# Altium schematic symbol library LukaLIBRARY.SchLib: 83 symbols
Pins are listed as number, name and electrical type; pins without a type are passive.

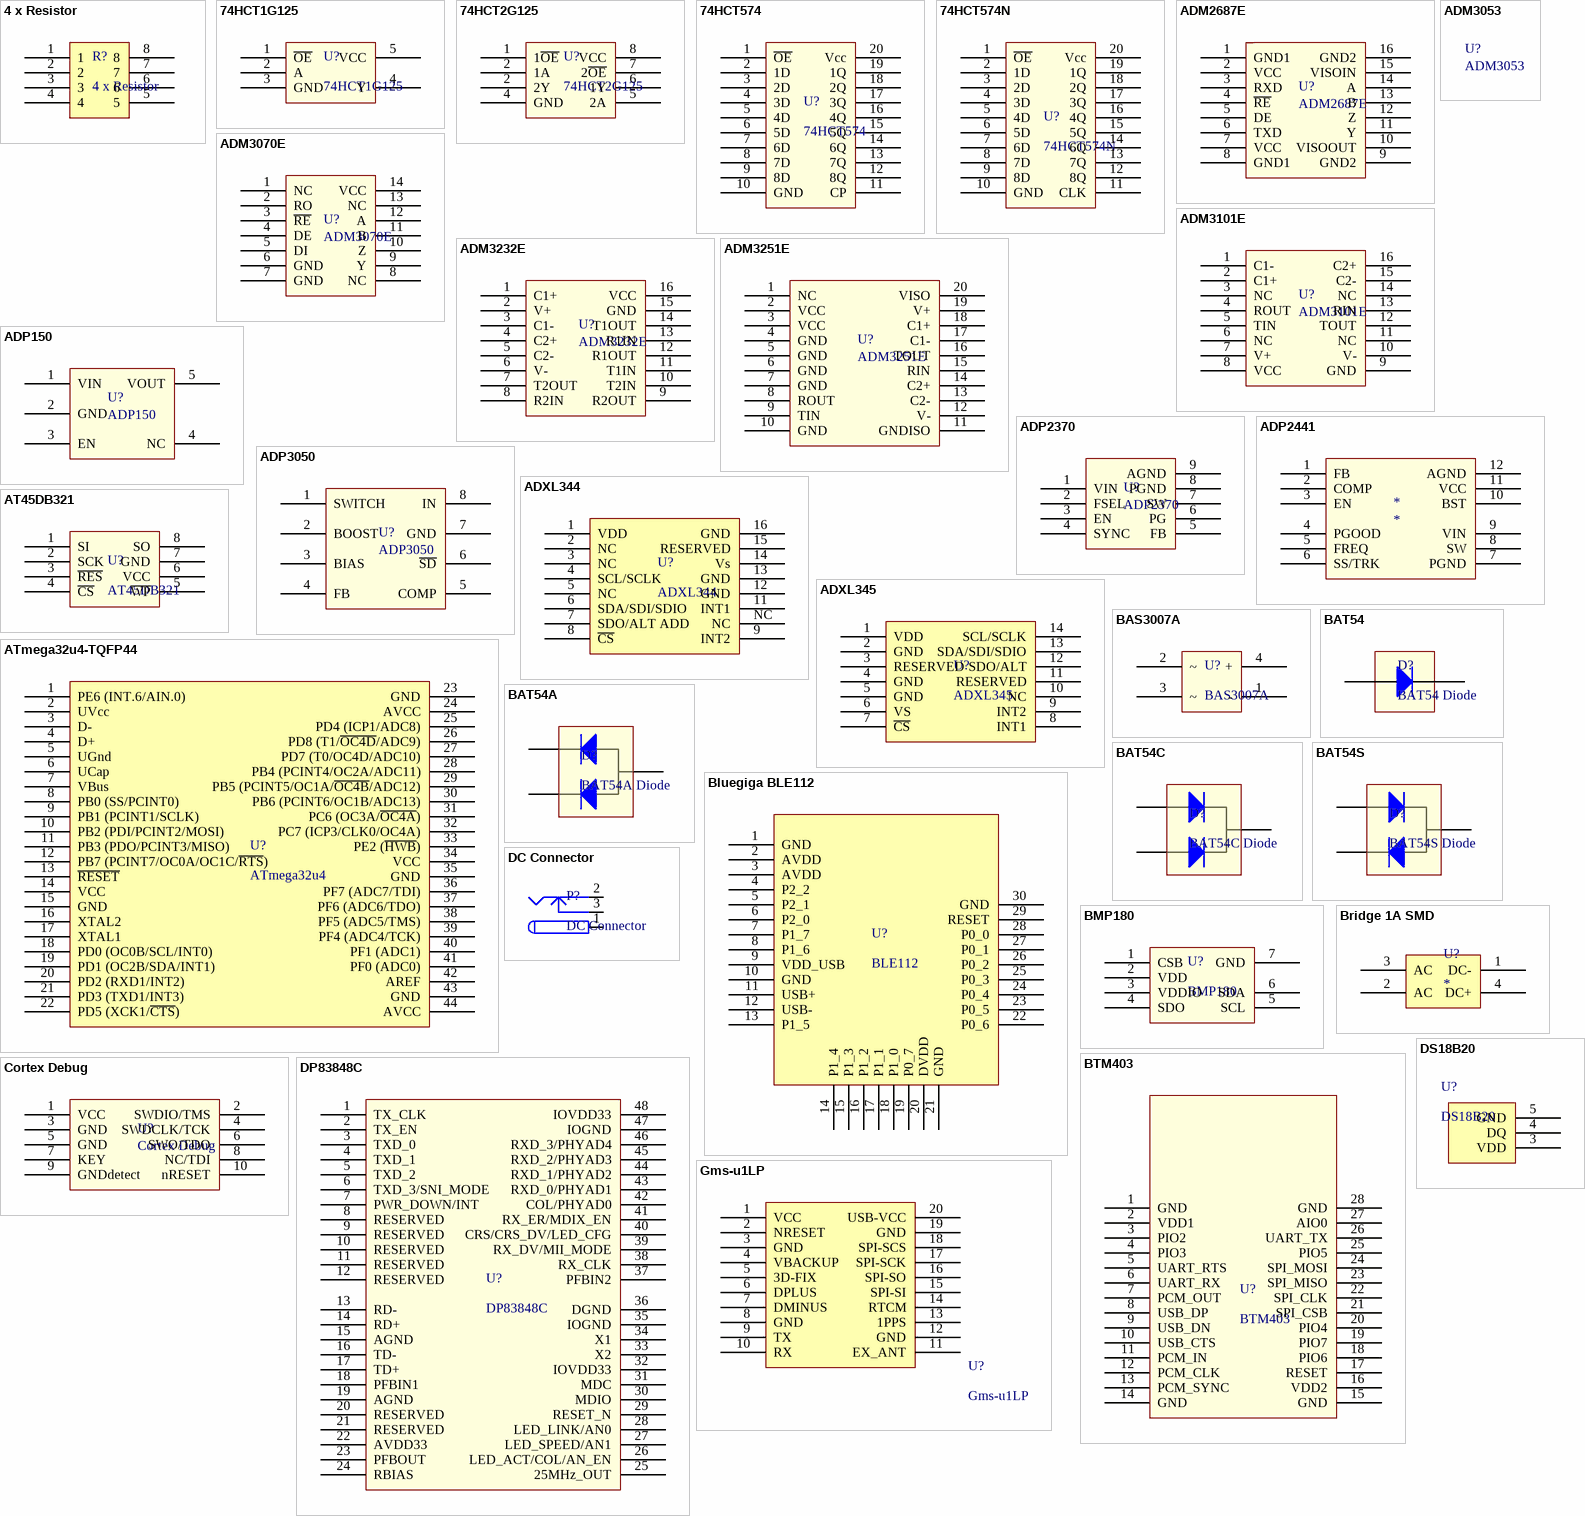
[diagram p0: symbols 4 x Resistor to Gms-u1LP]

## 4 x Resistor
designator R?
Resistor
pins: 1, 2, 3, 4, 5, 6, 7, 8

## 74HCT1G125
designator U?
Bus buffer/line driver
footprint SOT23-5
pins: 1 ~{OE}, 2 A, 3 GND, 4 Y, 5 VCC

## 74HCT2G125
designator U?
Dual buffer/line driver
footprint TSSOP-8
pins: 1 1~{OE}, 2 1A, 2 2Y, 4 GND, 5 2A, 6 1Y, 7 2~{OE}, 8 VCC

## 74HCT574
designator U?
D Flip Flops
pins: 1 ~{OE}, 2 1D, 3 2D, 4 3D, 5 4D, 6 5D, 7 6D, 8 7D, 9 8D, 10 GND, 11 CP, 12 8Q, 13 7Q, 14 6Q, 15 5Q, 16 4Q, 17 3Q, 18 2Q, 19 1Q, 20 Vcc

## 74HCT574N
designator U?
D Flip Flops
pins: 1 ~{OE}, 2 1D, 3 2D, 4 3D, 5 4D, 6 5D, 7 6D, 8 7D, 9 8D, 10 GND, 11 CLK, 12 8Q, 13 7Q, 14 6Q, 15 5Q, 16 4Q, 17 3Q, 18 2Q, 19 1Q, 20 Vcc

## ADM2687E
designator U?
RS-485 Transceiver with ±15 kV ESD Protection
pins: 1 GND1, 2 VCC, 3 RXD, 4 ~{RE}, 5 DE, 6 TXD, 7 VCC, 8 GND1, 9 GND2, 10 VISOOUT, 11 Y, 12 Z, 13 B, 14 A, 15 VISOIN, 16 GND2

## ADM3053
designator U?
Signal and Power Isolated CAN Transceiver  with Integrated Isolated DC-to-DC Converter

## ADM3070E
designator U?
±15KV ESD PROTECTED, RS-485/RS-422 TRANSCEIVER (FULL DUPLEX, 250 KBPS)
pins: 1 NC, 2 RO, 3 ~{RE}, 4 DE, 5 DI, 6 GND, 7 GND, 8 NC, 9 Y, 10 Z, 11 B, 12 A, 13 NC, 14 VCC

## ADM3101E
designator U?
±15 kV ESD Protected, 3.3 V Single-Channel  RS-232 Line Driver/Receiver
pins: 1 C1-, 2 C1+, 3 NC, 4 ROUT, 5 TIN, 6 NC, 7 V+, 8 VCC, 9 GND, 10 V-, 11 NC, 12 TOUT, 13 RIN, 14 NC, 15 C2-, 16 C2+

## ADM3232E
designator U?
±15 kV ESD Protected, 3.3 V, RS-232  Line Driver/Receiver
pins: 1 C1+, 2 V+, 3 C1-, 4 C2+, 5 C2-, 6 V-, 7 T2OUT, 8 R2IN, 9 R2OUT, 10 T2IN, 11 T1IN, 12 R1OUT, 13 R1IN, 14 T1OUT, 15 GND, 16 VCC

## ADM3251E
designator U?
Isolated, Single-Channel  RS-232 Line Driver/Receiver
pins: 1 NC, 2 VCC, 3 VCC, 4 GND, 5 GND, 6 GND, 7 GND, 8 ROUT, 9 TIN, 10 GND, 11 GNDISO, 12 V-, 13 C2-, 14 C2+, 15 RIN, 16 TOUT, 17 C1-, 18 C1+, 19 V+, 20 VISO

## ADP150
designator U?
150ma CMOS Linear Voltage Regulator
pins: 1 VIN, 2 GND, 3 EN, 4 NC, 5 VOUT

## ADP2370
designator U?
High Voltage, 1.2 MHz/600 kHz, 800 mA,  Low Quiescent Current Buck Regulator
pins: 1 VIN, 2 FSEL, 3 EN, 4 SYNC, 5 FB, 6 PG, 7 SW, 8 PGND, 9 AGND

## ADP2441
designator *
pins: 1 FB, 2 COMP, 3 EN, 4 PGOOD, 5 FREQ, 6 SS/TRK, 7 PGND, 8 SW, 9 VIN, 10 BST, 11 VCC, 12 AGND

## ADP3050
designator U?
200kHz, 1A High Voltage  Step-Down Switching Regulator
pins: 1 SWITCH, 2 BOOST, 3 BIAS, 4 FB, 5 COMP, 6 ~{SD}, 7 GND, 8 IN

## ADXL344
designator U?
Accelerometer
pins: 1 VDD, 2 NC, 3 NC, 4 SCL/SCLK, 5 NC, 6 SDA/SDI/SDIO, 7 SDO/ALT ADD, 8 ~{CS}, 9 INT2, 11 INT1, 12 GND, 13 GND, 14 Vs, 15 RESERVED, 16 GND, NC

## ADXL345
designator U?
Accelerometer
footprint ADXL345 (Accelerometer)
pins: 1 VDD, 2 GND, 3 RESERVED, 4 GND, 5 GND, 6 VS, 7 ~{CS}, 8 INT1, 9 INT2, 10 NC, 11 RESERVED, 12 SDO/ALT, 13 SDA/SDI/SDIO, 14 SCL/SCLK

## AT45DB321
designator U?
SPI Flash 32MB
footprint AT45DB321E (Footprint not found)
pins: 1 SI, 2 SCK, 3 ~{RES}, 4 ~{CS}, 5 ~{WP}, 6 VCC, 7 GND, 8 SO

## ATmega32u4-TQFP44
designator U?, comment ATmega32u4
Microcontroller AVR ATmega32u4
footprint 44A_L (Thin QFP, 44-Leads, Body 10x10mm, Pitch 0.8mm, IPC High Density)
signal-integrity model 44A_L (Model Description)
pins: 1 PE6 (INT.6/AIN.0), 2 UVcc, 3 D-, 4 D+, 5 UGnd, 6 UCap, 7 VBus, 8 PB0 (SS/PCINT0), 9 PB1 (PCINT1/SCLK), 10 PB2 (PDI/PCINT2/MOSI), 11 PB3 (PDO/PCINT3/MISO), 12 PB7 (PCINT7/OC0A/OC1C/~{RTS}), 13 ~{RESET}, 14 VCC, 15 GND, 16 XTAL2, 17 XTAL1, 18 PD0 (OC0B/SCL/INT0), 19 PD1 (OC2B/SDA/INT1), 20 PD2 (RXD1/INT2), 21 PD3 (TXD1/INT3), 22 PD5 (XCK1/~{CTS}), 23 GND, 24 AVCC, 25 PD4 (ICP1/ADC8), 26 PD8 (T1/~{OC4D}/ADC9), 27 PD7 (T0/OC4D/ADC10), 28 PB4 (PCINT4/OC2A/ADC11), 29 PB5 (PCINT5/OC1A/~{OC4B}/ADC12), 30 PB6 (PCINT6/OC1B/ADC13), 31 PC6 (OC3A/~{OC4A}), 32 PC7 (ICP3/CLK0/OC4A), 33 PE2 (~{HWB}), 34 VCC, 35 GND, 36 PF7 (ADC7/TDI), 37 PF6 (ADC6/TDO), 38 PF5 (ADC5/TMS), 39 PF4 (ADC4/TCK), 40 PF1 (ADC1), 41 PF0 (ADC0), 42 AREF, 43 GND, 44 AVCC

## BAS3007A
designator U?
Schottky Diode Array
pins: 1 -, 2 ~, 3 ~, 4 +

## BAT54
designator D?, comment BAT54 Diode
Schottky Diode
pins: 1, 3

## BAT54A
designator D?, comment BAT54A Diode
Schottky Diode
pins: 1, 2, 3

## BAT54C
designator D?, comment BAT54C Diode
Schottky Diode
pins: 1, 2, 3

## BAT54S
designator D?, comment BAT54S Diode
Schottky Diode
pins: 1, 2, 3

## Bluegiga BLE112
designator U?, comment BLE112
Bluetooth Module
signal-integrity model Model Name (Model Description)
footprint Bluegiga BLE112
pins: 1 GND, 2 AVDD, 3 AVDD, 4 P2_2, 5 P2_1, 6 P2_0, 7 P1_7, 8 P1_6, 9 VDD_USB, 10 GND, 11 USB+, 12 USB-, 13 P1_5, 14 P1_4, 15 P1_3, 16 P1_2, 17 P1_1, 18 P1_0, 19 P0_7, 20 DVDD, 21 GND, 22 P0_6, 23 P0_5, 24 P0_4, 25 P0_3, 26 P0_2, 27 P0_1, 28 P0_0, 29 RESET, 30 GND

## BMP180
designator U?
Digital pressure sensor
pins: 1 CSB, 2 VDD, 3 VDDIO, 4 SDO, 5 SCL, 6 SDA, 7 GND

## Bridge 1A SMD
designator U?
footprint Bridge SMD 1A
pins: 1 DC-, 2 AC, 3 AC, 4 DC+

## BTM403
designator U?
Bluetooth Module
pins: 1 GND, 2 VDD1, 3 PIO2, 4 PIO3, 5 UART_RTS, 6 UART_RX, 7 PCM_OUT, 8 USB_DP, 9 USB_DN, 10 USB_CTS, 11 PCM_IN, 12 PCM_CLK, 13 PCM_SYNC, 14 GND, 15 GND, 16 VDD2, 17 RESET, 18 PIO6, 19 PIO7, 20 PIO4, 21 SPI_CSB, 22 SPI_CLK, 23 SPI_MISO, 24 SPI_MOSI, 25 PIO5, 26 UART_TX, 27 AIO0, 28 GND

## Cortex Debug
designator U?
pins: 1 VCC, 2 SWDIO/TMS, 3 GND, 4 SWDCLK/TCK, 5 GND, 6 SWO/TDO, 7 KEY, 8 NC/TDI, 9 GNDdetect, 10 nRESET

## DC Connector
designator P?
DC Power Connector
footprint DC Connector
pins: 1 (power), 2 (power), 3 (power)

## DP83848C
designator U?
Ethernet PHY
footprint DP83848C (Ethernet PHY LQFP48)
pins: 1 TX_CLK, 2 TX_EN, 3 TXD_0, 4 TXD_1, 5 TXD_2, 6 TXD_3/SNI_MODE, 7 PWR_DOWN/INT, 8 RESERVED, 9 RESERVED, 10 RESERVED, 11 RESERVED, 12 RESERVED, 13 RD-, 14 RD+, 15 AGND, 16 TD-, 17 TD+, 18 PFBIN1, 19 AGND, 20 RESERVED, 21 RESERVED, 22 AVDD33, 23 PFBOUT, 24 RBIAS, 25 25MHz_OUT, 26 LED_ACT/COL/AN_EN, 27 LED_SPEED/AN1, 28 LED_LINK/AN0, 29 RESET_N, 30 MDIO, 31 MDC, 32 IOVDD33, 33 X2, 34 X1, 35 IOGND, 36 DGND, 37 PFBIN2, 38 RX_CLK, 39 RX_DV/MII_MODE, 40 CRS/CRS_DV/LED_CFG, 41 RX_ER/MDIX_EN, 42 COL/PHYAD0, 43 RXD_0/PHYAD1, 44 RXD_1/PHYAD2, 45 RXD_2/PHYAD3, 46 RXD_3/PHYAD4, 47 IOGND, 48 IOVDD33

## DS18B20
designator U?
1-Wire Thermometer
footprint BATTERY CHARGER 8SOIC
pins: 3 VDD, 4 DQ, 5 GND

## Gms-u1LP
designator U?
GPS Module
footprint Gms-u1LP GPS Module - duplicate
signal-integrity model Model Name (Model Description)
3D model gps (PCB3D Model)
pins: 1 VCC, 2 NRESET, 3 GND, 4 VBACKUP, 5 3D-FIX, 6 DPLUS, 7 DMINUS, 8 GND, 9 TX, 10 RX, 11 EX_ANT, 12 GND, 13 1PPS, 14 RTCM, 15 SPI-SI, 16 SPI-SO, 17 SPI-SCK, 18 SPI-SCS, 19 GND, 20 USB-VCC

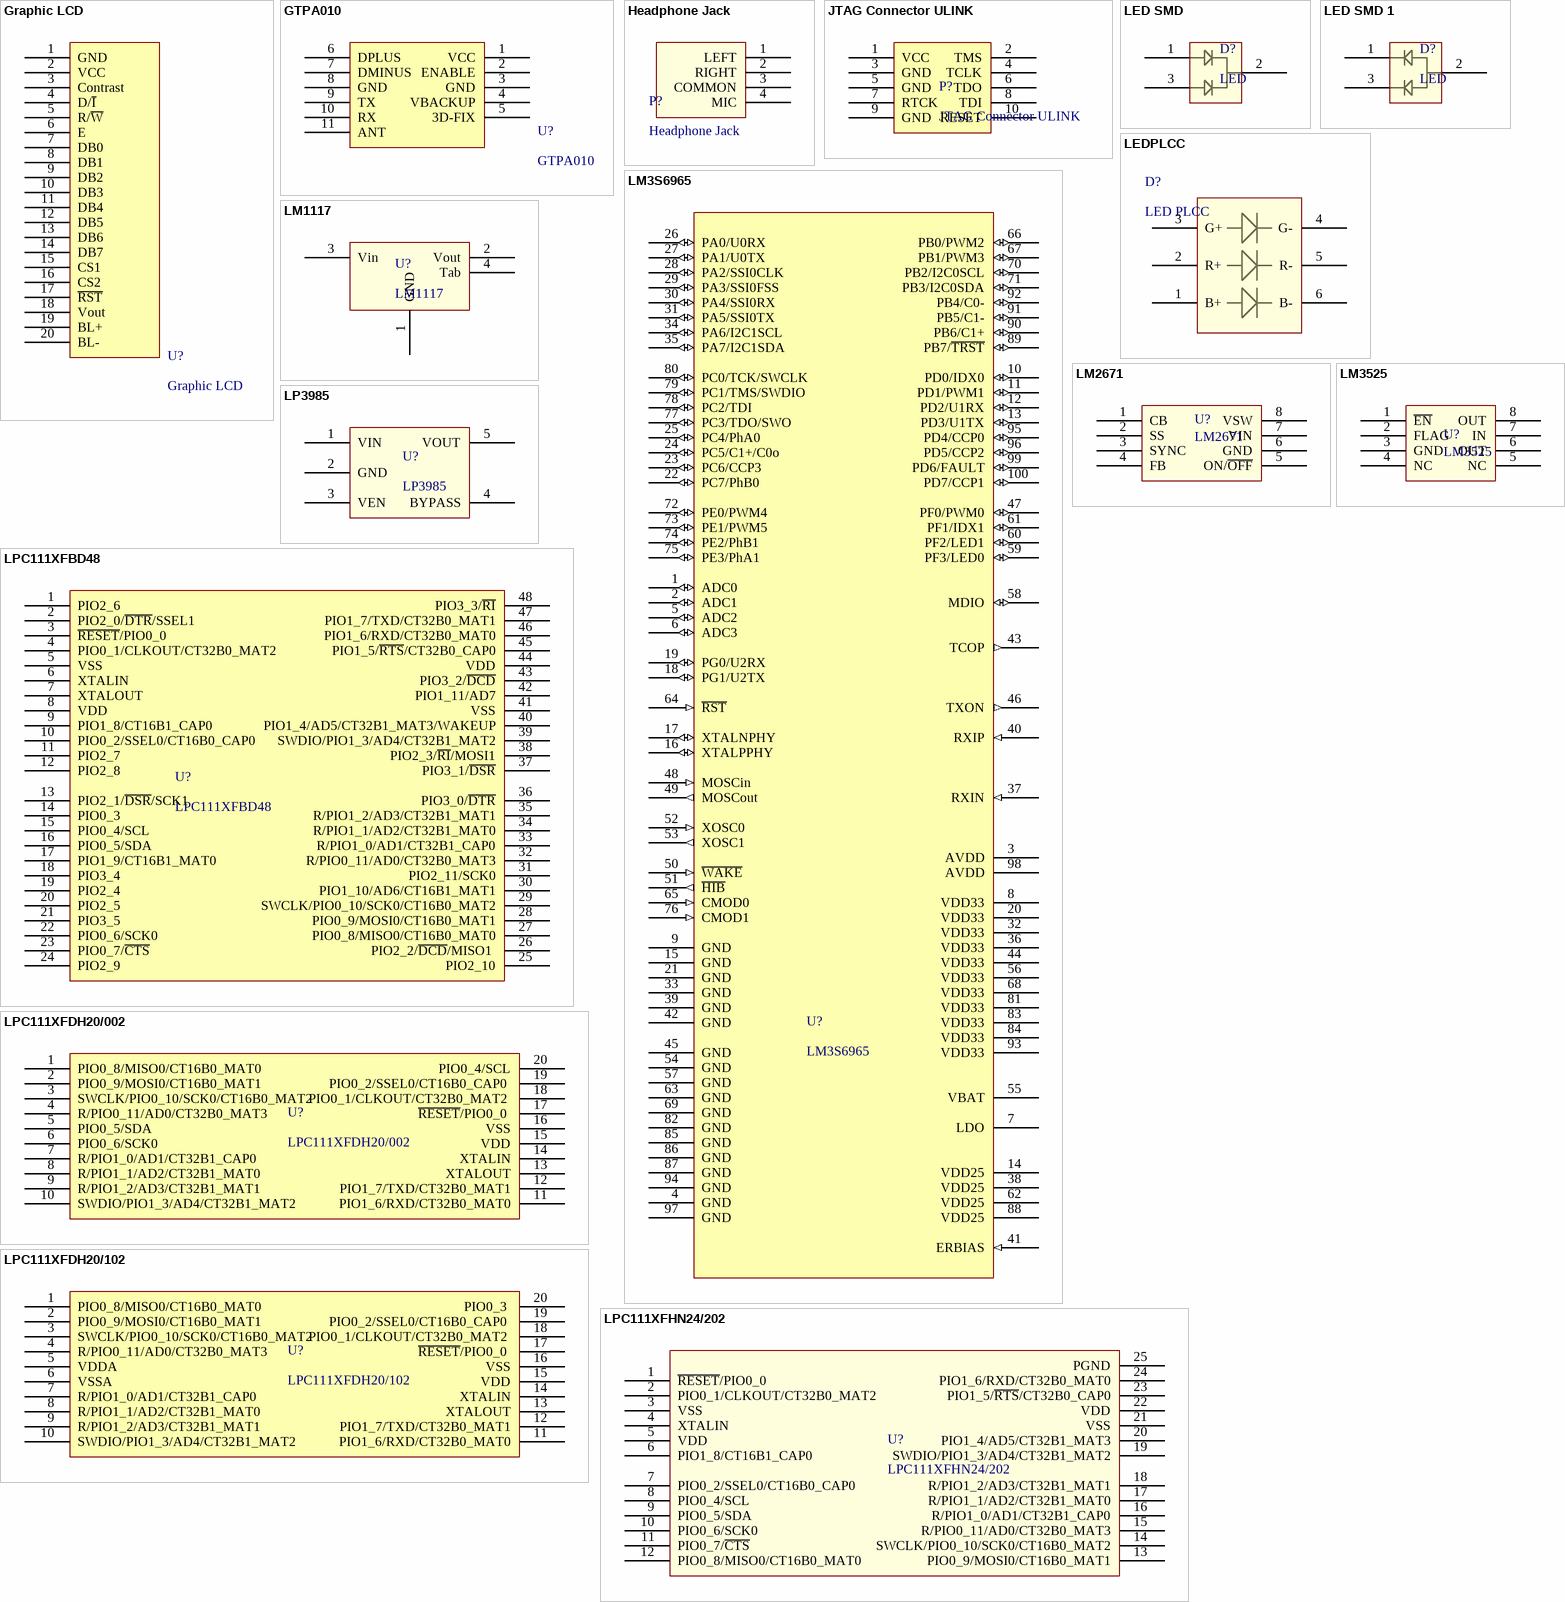
[diagram p1: symbols Graphic LCD to LPC111XFHN24/202]

## Graphic LCD
designator U?
signal-integrity model Graphic LCD
footprint Graphic LCD 128x64
3D model GRAPHIC_LCD_128x64 (PCB3D Model)
pins: 1 GND, 2 VCC, 3 Contrast, 4 D/~{I}, 5 R/~{W}, 6 E, 7 DB0, 8 DB1, 9 DB2, 10 DB3, 11 DB4, 12 DB5, 13 DB6, 14 DB7, 15 CS1, 16 CS2, 17 ~{RST}, 18 Vout, 19 BL+, 20 BL-

## GTPA010
designator U?
GPS Module
footprint GPS-GTPA010
signal-integrity model GPS-GTPA010 (Model Description)
pins: 1 VCC, 2 ENABLE, 3 GND, 4 VBACKUP, 5 3D-FIX, 6 DPLUS, 7 DMINUS, 8 GND, 9 TX, 10 RX, 11 ANT

## Headphone Jack
designator P?
pins: 1 LEFT, 2 RIGHT, 3 COMMON, 4 MIC

## JTAG Connector ULINK
designator P?
footprint JTAG Connector ULINK
signal-integrity model Model Name (Model Description)
pins: 1 VCC, 2 TMS, 3 GND, 4 TCLK, 5 GND, 6 TDO, 7 RTCK, 8 TDI, 9 GND, 10 RESET

## LED SMD
designator D?, comment LED
footprint SMD LED
pins: 1, 2, 3

## LED SMD 1
designator D?, comment LED
footprint SMD LED
pins: 1, 2, 3

## LEDPLCC
designator D?, comment LED PLCC
LED
footprint LED PLCC 6 5050
pins: 1 B+, 2 R+, 3 G+, 4 G-, 5 R-, 6 B-

## LM3S6965
designator U?
ARM Cortex M3 Microcontroller
pins: 1 ADC0 (io), 2 ADC1 (io), 3 AVDD, 4 GND, 5 ADC2 (io), 6 ADC3 (io), 7 LDO, 8 VDD33, 9 GND, 10 PD0/IDX0 (io), 11 PD1/PWM1 (io), 12 PD2/U1RX (io), 13 PD3/U1TX (io), 14 VDD25, 15 GND, 16 XTALPPHY (io), 17 XTALNPHY (io), 18 PG1/U2TX (io), 19 PG0/U2RX (io), 20 VDD33, 21 GND, 22 PC7/PhB0 (io), 23 PC6/CCP3 (io), 24 PC5/C1+/C0o (io), 25 PC4/PhA0 (io), 26 PA0/U0RX (io), 27 PA1/U0TX (io), 28 PA2/SSI0CLK (io), 29 PA3/SSI0FSS (io), 30 PA4/SSI0RX (io), 31 PA5/SSI0TX (io), 32 VDD33, 33 GND, 34 PA6/I2C1SCL (io), 35 PA7/I2C1SDA (io), 36 VDD33, 37 RXIN (in), 38 VDD25, 39 GND, 40 RXIP (in), 41 ERBIAS (in), 42 GND, 43 TCOP (out), 44 VDD33, 45 GND, 46 TXON (out), 47 PF0/PWM0 (io), 48 MOSCin (in), 49 MOSCout (out), 50 ~{WAKE} (in), 51 ~{HIB} (out), 52 XOSC0 (in), 53 XOSC1 (out), 54 GND, 55 VBAT, 56 VDD33, 57 GND, 58 MDIO (io), 59 PF3/LED0 (io), 60 PF2/LED1 (io), 61 PF1/IDX1 (io), 62 VDD25, 63 GND, 64 ~{RST} (in), 65 CMOD0 (in), 66 PB0/PWM2 (io), 67 PB1/PWM3 (io), 68 VDD33, 69 GND, 70 PB2/I2C0SCL (io), 71 PB3/I2C0SDA (io), 72 PE0/PWM4 (io), 73 PE1/PWM5 (io), 74 PE2/PhB1 (io), 75 PE3/PhA1 (io), 76 CMOD1 (in), 77 PC3/TDO/SWO (io), 78 PC2/TDI (io), 79 PC1/TMS/SWDIO (io), 80 PC0/TCK/SWCLK (io), 81 VDD33, 82 GND, 83 VDD33, 84 VDD33, 85 GND, 86 GND, 87 GND, 88 VDD25, 89 PB7/~{TRST} (io), 90 PB6/C1+ (io), 91 PB5/C1- (io), 92 PB4/C0- (io), 93 VDD33, 94 GND, 95 PD4/CCP0 (io), 96 PD5/CCP2 (io), 97 GND, 98 AVDD, 99 PD6/FAULT (io), 100 PD7/CCP1 (io)

## LM1117
designator U?
Voltage Regulator
pins: 1 GND, 2 Vout, 3 Vin, 4 Tab

## LM2671
designator U?
Switcher Voltage  Regulator
pins: 1 CB, 2 SS, 3 SYNC, 4 FB, 5 ON/~{OFF}, 6 GND, 7 VIN, 8 VSW

## LM3525
designator U?
Single Port USB Power Switch and Over-Current Protection
pins: 1 ~{EN}, 2 FLAG, 3 GND, 4 NC, 5 NC, 6 OUT, 7 IN, 8 OUT

## LP3985
designator U?
150mA LDO
footprint TSOP 5
pins: 1 VIN, 2 GND, 3 VEN, 4 BYPASS, 5 VOUT

## LPC111XFBD48
designator U?
ARM Cortex M0 Microcontroller
footprint LPC1114 LQFP48
signal-integrity model LPC1114 (NXP)
pins: 1 PIO2_6, 2 PIO2_0/~{DTR}/SSEL1, 3 ~{RESET}/PIO0_0, 4 PIO0_1/CLKOUT/CT32B0_MAT2, 5 VSS, 6 XTALIN, 7 XTALOUT, 8 VDD, 9 PIO1_8/CT16B1_CAP0, 10 PIO0_2/SSEL0/CT16B0_CAP0, 11 PIO2_7, 12 PIO2_8, 13 PIO2_1/~{DSR}/SCK1, 14 PIO0_3, 15 PIO0_4/SCL, 16 PIO0_5/SDA, 17 PIO1_9/CT16B1_MAT0, 18 PIO3_4, 19 PIO2_4, 20 PIO2_5, 21 PIO3_5, 22 PIO0_6/SCK0, 23 PIO0_7/~{CTS}, 24 PIO2_9, 25 PIO2_10, 26 PIO2_2/~{DCD}/MISO1 , 27 PIO0_8/MISO0/CT16B0_MAT0, 28 PIO0_9/MOSI0/CT16B0_MAT1, 29 SWCLK/PIO0_10/SCK0/CT16B0_MAT2, 30 PIO1_10/AD6/CT16B1_MAT1, 31 PIO2_11/SCK0, 32 R/PIO0_11/AD0/CT32B0_MAT3, 33 R/PIO1_0/AD1/CT32B1_CAP0, 34 R/PIO1_1/AD2/CT32B1_MAT0, 35 R/PIO1_2/AD3/CT32B1_MAT1, 36 PIO3_0/~{DTR}, 37 PIO3_1/~{DSR}, 38 PIO2_3/~{RI}/MOSI1, 39 SWDIO/PIO1_3/AD4/CT32B1_MAT2, 40 PIO1_4/AD5/CT32B1_MAT3/WAKEUP, 41 VSS, 42 PIO1_11/AD7, 43 PIO3_2/~{DCD}, 44 VDD, 45 PIO1_5/~{RTS}/CT32B0_CAP0, 46 PIO1_6/RXD/CT32B0_MAT0, 47 PIO1_7/TXD/CT32B0_MAT1, 48 PIO3_3/~{RI}

## LPC111XFDH20/002
designator U?
ARM Cortex M0 Microcontroller
pins: 1 PIO0_8/MISO0/CT16B0_MAT0, 2 PIO0_9/MOSI0/CT16B0_MAT1, 3 SWCLK/PIO0_10/SCK0/CT16B0_MAT2, 4 R/PIO0_11/AD0/CT32B0_MAT3, 5 PIO0_5/SDA, 6 PIO0_6/SCK0, 7 R/PIO1_0/AD1/CT32B1_CAP0, 8 R/PIO1_1/AD2/CT32B1_MAT0, 9 R/PIO1_2/AD3/CT32B1_MAT1, 10 SWDIO/PIO1_3/AD4/CT32B1_MAT2, 11 PIO1_6/RXD/CT32B0_MAT0, 12 PIO1_7/TXD/CT32B0_MAT1, 13 XTALOUT, 14 XTALIN, 15 VDD, 16 VSS, 17 ~{RESET}/PIO0_0 , 18 PIO0_1/CLKOUT/CT32B0_MAT2 , 19 PIO0_2/SSEL0/CT16B0_CAP0 , 20 PIO0_4/SCL

## LPC111XFDH20/102
designator U?
ARM Cortex M0 Microcontroller
pins: 1 PIO0_8/MISO0/CT16B0_MAT0, 2 PIO0_9/MOSI0/CT16B0_MAT1, 3 SWCLK/PIO0_10/SCK0/CT16B0_MAT2, 4 R/PIO0_11/AD0/CT32B0_MAT3, 5 VDDA, 6 VSSA, 7 R/PIO1_0/AD1/CT32B1_CAP0, 8 R/PIO1_1/AD2/CT32B1_MAT0, 9 R/PIO1_2/AD3/CT32B1_MAT1, 10 SWDIO/PIO1_3/AD4/CT32B1_MAT2, 11 PIO1_6/RXD/CT32B0_MAT0, 12 PIO1_7/TXD/CT32B0_MAT1, 13 XTALOUT, 14 XTALIN, 15 VDD, 16 VSS, 17 ~{RESET}/PIO0_0 , 18 PIO0_1/CLKOUT/CT32B0_MAT2 , 19 PIO0_2/SSEL0/CT16B0_CAP0 , 20 PIO0_3 

## LPC111XFHN24/202
designator U?
ARM Cortex M0 Microcontroller
pins: 1 ~{RESET}/PIO0_0, 2 PIO0_1/CLKOUT/CT32B0_MAT2, 3 VSS, 4 XTALIN, 5 VDD, 6 PIO1_8/CT16B1_CAP0, 7 PIO0_2/SSEL0/CT16B0_CAP0, 8 PIO0_4/SCL, 9 PIO0_5/SDA, 10 PIO0_6/SCK0 , 11 PIO0_7/~{CTS}, 12 PIO0_8/MISO0/CT16B0_MAT0, 13 PIO0_9/MOSI0/CT16B0_MAT1, 14 SWCLK/PIO0_10/SCK0/CT16B0_MAT2, 15 R/PIO0_11/AD0/CT32B0_MAT3, 16 R/PIO1_0/AD1/CT32B1_CAP0, 17 R/PIO1_1/AD2/CT32B1_MAT0, 18 R/PIO1_2/AD3/CT32B1_MAT1, 19 SWDIO/PIO1_3/AD4/CT32B1_MAT2, 20 PIO1_4/AD5/CT32B1_MAT3, 21 VSS, 22 VDD, 23 PIO1_5/~{RTS}/CT32B0_CAP0, 24 PIO1_6/RXD/CT32B0_MAT0, 25 PGND

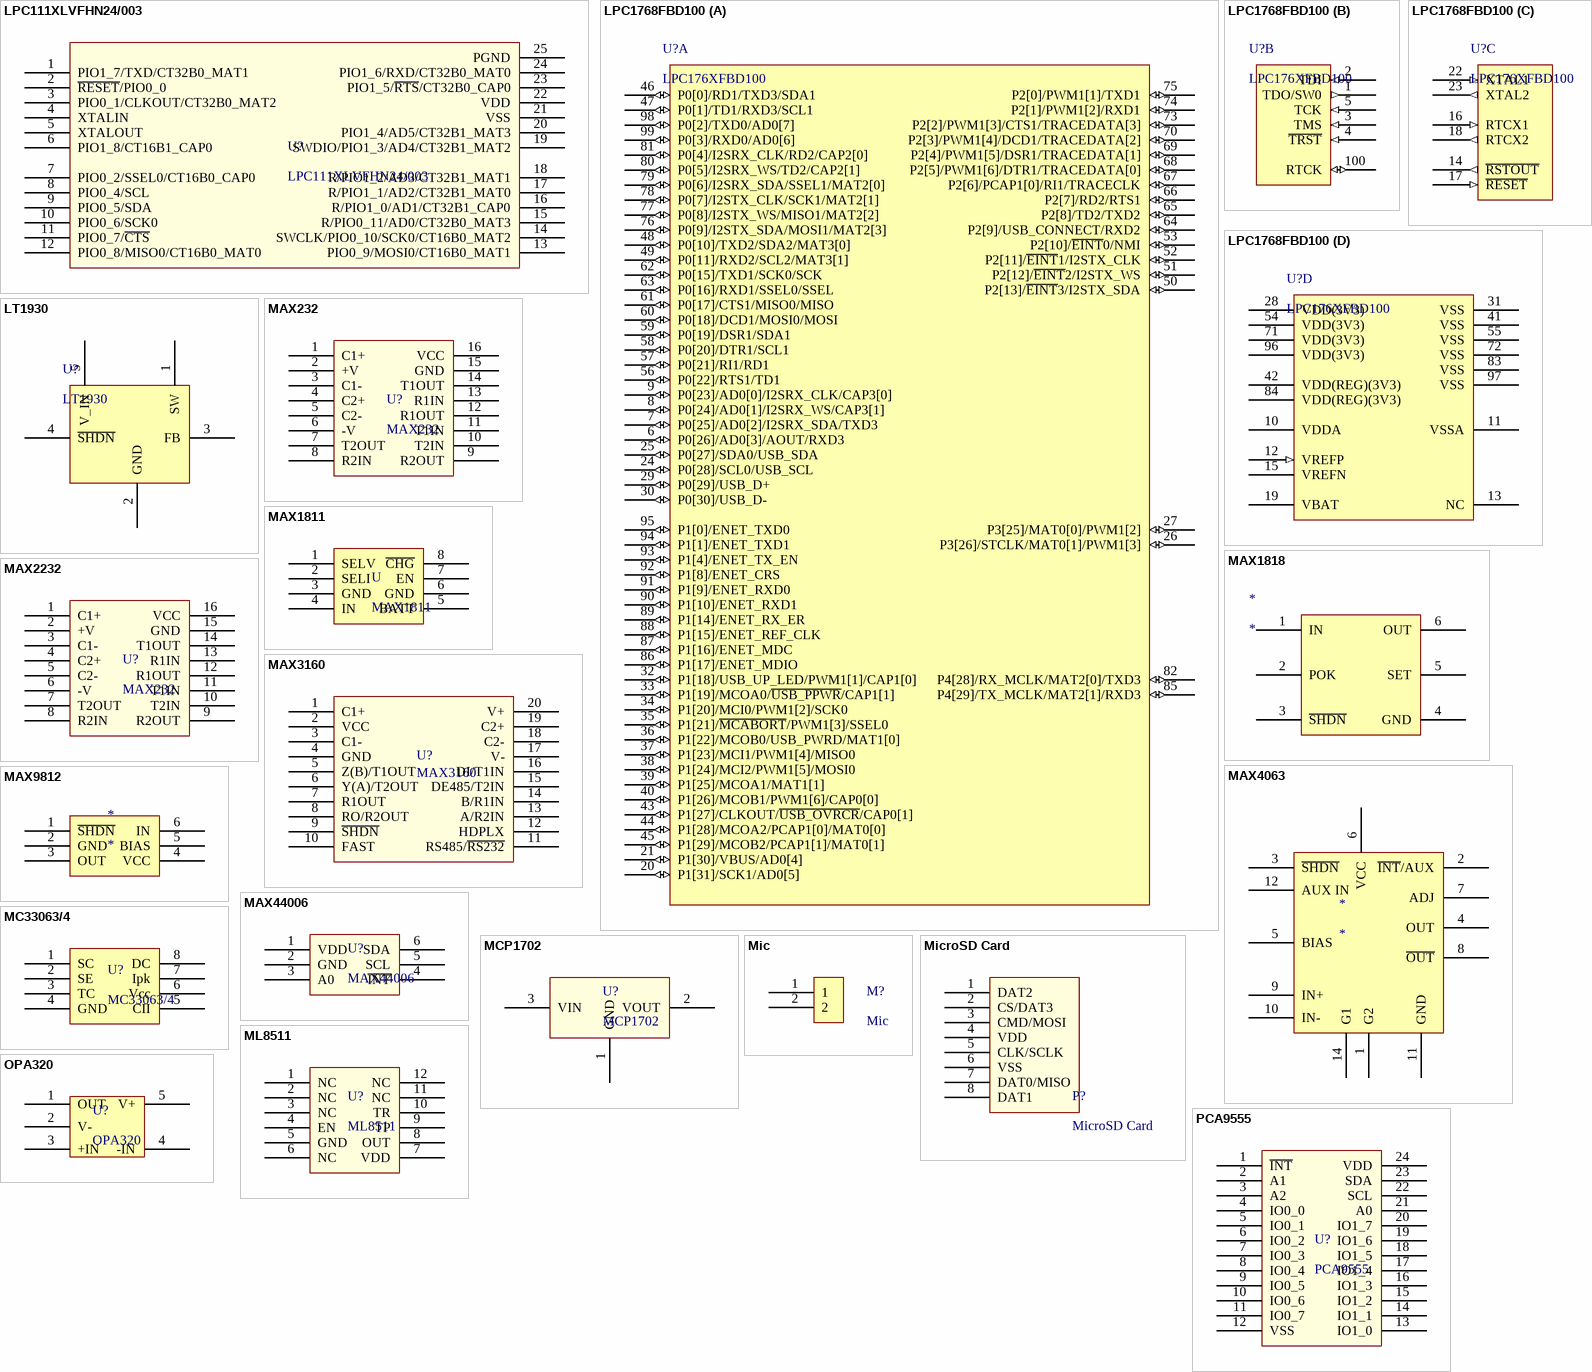
[diagram p2: symbols LPC111XLVFHN24/003 to PCA9555]

## LPC111XLVFHN24/003
designator U?
ARM Cortex M0 Microcontroller
pins: 1 PIO1_7/TXD/CT32B0_MAT1, 2 ~{RESET}/PIO0_0, 3 PIO0_1/CLKOUT/CT32B0_MAT2, 4 XTALIN, 5 XTALOUT, 6 PIO1_8/CT16B1_CAP0, 7 PIO0_2/SSEL0/CT16B0_CAP0, 8 PIO0_4/SCL, 9 PIO0_5/SDA, 10 PIO0_6/SCK0 , 11 PIO0_7/~{CTS}, 12 PIO0_8/MISO0/CT16B0_MAT0, 13 PIO0_9/MOSI0/CT16B0_MAT1, 14 SWCLK/PIO0_10/SCK0/CT16B0_MAT2, 15 R/PIO0_11/AD0/CT32B0_MAT3, 16 R/PIO1_0/AD1/CT32B1_CAP0, 17 R/PIO1_1/AD2/CT32B1_MAT0, 18 R/PIO1_2/AD3/CT32B1_MAT1, 19 SWDIO/PIO1_3/AD4/CT32B1_MAT2, 20 PIO1_4/AD5/CT32B1_MAT3, 21 VSS, 22 VDD, 23 PIO1_5/~{RTS}/CT32B0_CAP0, 24 PIO1_6/RXD/CT32B0_MAT0, 25 PGND

## LPC1768FBD100
designator U?, comment LPC176XFBD100
32-bit ARM Cortex-M3 microcontroller; up to 512 kB flash and 64 kB SRAM with Ethernet, USB 2.0 Host/Device/OTG, CAN; Code_IEC: 136E20; Published: 17-Aug-2007; DatasheetVersion: rev.01, Jan-2007; PackageVersion: Feb-2003; PackageReference: SOT407-1; Publisher: Altium Limited; PackageDescription: 100-Pin Plastic Low Profile Quad Flat Pack, LQFP100; Code_JEDEC: MS-026; ComponentLink1Description: Manufacturer Link; ComponentLink1URL: http://www.nxp.com/; ComponentLink2Description: Datasheet; ComponentLink2URL: http://www.standardics.nxp.com/products/lpc2000/datasheet/lpc2364.lpc2366.lpc2368.pdf
footprint SOT407-1_N (Thin QFP, 100-Leads, Body 14x14mm, Pitch 0.5mm, IPC Medium Density)
footprint SOT407-1_L (Thin QFP, 100-Leads, Body 14x14mm, Pitch 0.5mm, IPC High Density)
footprint SOT407-1_M (Thin QFP, 100-Leads, Body 14x14mm, Pitch 0.5mm, IPC Low Density)
part A pins: 6 P0[26]/AD0[3]/AOUT/RXD3 (io), 7 P0[25]/AD0[2]/I2SRX_SDA/TXD3 (io), 8 P0[24]/AD0[1]/I2SRX_WS/CAP3[1] (io), 9 P0[23]/AD0[0]/I2SRX_CLK/CAP3[0] (io), 20 P1[31]/SCK1/AD0[5] (io), 21 P1[30]/VBUS/AD0[4] (io), 24 P0[28]/SCL0/USB_SCL (io), 25 P0[27]/SDA0/USB_SDA (io), 26 P3[26]/STCLK/MAT0[1]/PWM1[3] (io), 27 P3[25]/MAT0[0]/PWM1[2] (io), 29 P0[29]/USB_D+ (io), 30 P0[30]/USB_D- (io), 32 P1[18]/USB_UP_LED/PWM1[1]/CAP1[0] (io), 33 P1[19]/MCOA0/~{USB_PPWR}/CAP1[1] (io), 34 P1[20]/MCI0/PWM1[2]/SCK0 (io), 35 P1[21]/~{MCABORT}/PWM1[3]/SSEL0 (io), 36 P1[22]/MCOB0/USB_PWRD/MAT1[0] (io), 37 P1[23]/MCI1/PWM1[4]/MISO0 (io), 38 P1[24]/MCI2/PWM1[5]/MOSI0 (io), 39 P1[25]/MCOA1/MAT1[1] (io), 40 P1[26]/MCOB1/PWM1[6]/CAP0[0] (io), 43 P1[27]/CLKOUT/~{USB_OVRCR}/CAP0[1] (io), 44 P1[28]/MCOA2/PCAP1[0]/MAT0[0] (io), 45 P1[29]/MCOB2/PCAP1[1]/MAT0[1] (io), 46 P0[0]/RD1/TXD3/SDA1 (io), 47 P0[1]/TD1/RXD3/SCL1 (io), 48 P0[10]/TXD2/SDA2/MAT3[0] (io), 49 P0[11]/RXD2/SCL2/MAT3[1] (io), 50 P2[13]/~{EINT}3/I2STX_SDA (io), 51 P2[12]/~{EINT}2/I2STX_WS (io), 52 P2[11]/~{EINT}1/I2STX_CLK (io), 53 P2[10]/~{EINT}0/NMI (io), 56 P0[22]/RTS1/TD1 (io), 57 P0[21]/RI1/RD1 (io), 58 P0[20]/DTR1/SCL1 (io), 59 P0[19]/DSR1/SDA1 (io), 60 P0[18]/DCD1/MOSI0/MOSI (io), 61 P0[17]/CTS1/MISO0/MISO (io), 62 P0[15]/TXD1/SCK0/SCK (io), 63 P0[16]/RXD1/SSEL0/SSEL (io), 64 P2[9]/USB_CONNECT/RXD2 (io), 65 P2[8]/TD2/TXD2 (io), 66 P2[7]/RD2/RTS1 (io), 67 P2[6]/PCAP1[0]/RI1/TRACECLK (io), 68 P2[5]/PWM1[6]/DTR1/TRACEDATA[0] (io), 69 P2[4]/PWM1[5]/DSR1/TRACEDATA[1] (io), 70 P2[3]/PWM1[4]/DCD1/TRACEDATA[2] (io), 73 P2[2]/PWM1[3]/CTS1/TRACEDATA[3] (io), 74 P2[1]/PWM1[2]/RXD1 (io), 75 P2[0]/PWM1[1]/TXD1 (io), 76 P0[9]/I2STX_SDA/MOSI1/MAT2[3] (io), 77 P0[8]/I2STX_WS/MISO1/MAT2[2] (io), 78 P0[7]/I2STX_CLK/SCK1/MAT2[1] (io), 79 P0[6]/I2SRX_SDA/SSEL1/MAT2[0] (io), 80 P0[5]/I2SRX_WS/TD2/CAP2[1] (io), 81 P0[4]/I2SRX_CLK/RD2/CAP2[0] (io), 82 P4[28]/RX_MCLK/MAT2[0]/TXD3 (io), 85 P4[29]/TX_MCLK/MAT2[1]/RXD3 (io), 86 P1[17]/ENET_MDIO (io), 87 P1[16]/ENET_MDC (io), 88 P1[15]/ENET_REF_CLK (io), 89 P1[14]/ENET_RX_ER (io), 90 P1[10]/ENET_RXD1 (io), 91 P1[9]/ENET_RXD0 (io), 92 P1[8]/ENET_CRS (io), 93 P1[4]/ENET_TX_EN (io), 94 P1[1]/ENET_TXD1 (io), 95 P1[0]/ENET_TXD0 (io), 98 P0[2]/TXD0/AD0[7] (io), 99 P0[3]/RXD0/AD0[6] (io)
part B pins: 1 TDO/SW0 (out), 2 TDI (in), 3 TMS (in), 4 ~{TRST} (in), 5 TCK (in), 100 RTCK (io)
part C pins: 14 ~{RSTOUT} (out), 16 RTCX1 (in), 17 ~{RESET} (in), 18 RTCX2 (out), 22 XTAL1 (in), 23 XTAL2 (out)
part D pins: 10 VDDA (power), 11 VSSA (power), 12 VREFP (in), 13 NC (power), 15 VREFN (power), 19 VBAT (power), 28 VDD(3V3) (power), 31 VSS (power), 41 VSS (power), 42 VDD(REG)(3V3) (power), 54 VDD(3V3) (power), 55 VSS (power), 71 VDD(3V3) (power), 72 VSS (power), 83 VSS (power), 84 VDD(REG)(3V3) (power), 96 VDD(3V3) (power), 97 VSS (power)

## LT1930
designator U?
1A, 1.2MHz/2.2MHz, Step-Up DC/DC Converter
footprint TS1935 Boost converter
pins: 1 SW, 2 GND, 3 FB, 4 ~{SHDN}, 5 V_IN

## MAX232
designator U?
Dual 232 +12V
pins: 1 C1+, 2 +V, 3 C1-, 4 C2+, 5 C2-, 6 -V, 7 T2OUT, 8 R2IN, 9 R2OUT, 10 T2IN, 11 T1IN, 12 R1OUT, 13 R1IN, 14 T1OUT, 15 GND, 16 VCC

## MAX1811
designator U
Battery Charger
pins: 1 SELV, 2 SELI, 3 GND, 4 IN, 5 BATT, 6 GND, 7 EN, 8 ~{CHG}

## MAX1818
designator *
footprint MAX9812 6SC70
pins: 1 IN, 2 POK, 3 ~{SHDN}, 4 GND, 5 SET, 6 OUT

## MAX2232
designator U?, comment MAX232
Dual 232 +3V3
pins: 1 C1+, 2 +V, 3 C1-, 4 C2+, 5 C2-, 6 -V, 7 T2OUT, 8 R2IN, 9 R2OUT, 10 T2IN, 11 T1IN, 12 R1OUT, 13 R1IN, 14 T1OUT, 15 GND, 16 VCC

## MAX3160
designator U?
RS-232/RS-485/422 multiprotocol transceiver
pins: 1 C1+, 2 VCC, 3 C1-, 4 GND, 5 Z(B)/T1OUT, 6 Y(A)/T2OUT, 7 R1OUT, 8 RO/R2OUT, 9 ~{SHDN}, 10 FAST, 11 RS485/~{RS232}, 12 HDPLX, 13 A/R2IN, 14 B/R1IN, 15 DE485/T2IN, 16 DI/T1IN, 17 V-, 18 C2-, 19 C2+, 20 V+

## MAX4063
designator *
Differential Microphone Preamplifier with Internal Bias and Complete Shutdown
pins: 1 G2, 2 ~{INT}/AUX, 3 ~{SHDN}, 4 OUT, 5 BIAS, 6 VCC, 7 ADJ, 8 ~{OUT}, 9 IN+, 10 IN-, 11 GND, 12 AUX IN, 14 G1

## MAX9812
designator *
pins: 1 ~{SHDN}, 2 GND, 3 OUT, 4 VCC, 5 BIAS, 6 IN

## MAX44006
designator U?
RGB Color, Infrared and Temperature Sensor
pins: 1 VDD, 2 GND, 3 A0, 4 ~{INT}, 5 SCL, 6 SDA

## MC33063/4
designator U?
1.5A Boost Regulator
pins: 1 SC, 2 SE, 3 TC, 4 GND, 5 CII, 6 Vcc, 7 Ipk, 8 DC

## MCP1702
designator U?
LDO Voltage Regulator
pins: 1 GND, 2 VOUT, 3 VIN

## Mic
designator M?
pins: 1, 2

## MicroSD Card
designator P?
MicroSD Card Connector
pins: 1 DAT2, 2 CS/DAT3, 3 CMD/MOSI, 4 VDD, 5 CLK/SCLK, 6 VSS, 7 DAT0/MISO, 8 DAT1

## ML8511
designator U?
UV Sensor with Voltage Output
pins: 1 NC, 2 NC, 3 NC, 4 EN, 5 GND, 6 NC, 7 VDD, 8 OUT, 9 TP, 10 TR, 11 NC, 12 NC

## OPA320
designator U?
CMOS Operational Amplifier
pins: 1 OUT, 2 V-, 3 +IN, 4 -IN, 5 V+

## PCA9555
designator U?
I2C I/O Ports
footprint SSOP24_N (SOP, 24-Leads, Body 6.2x5.3mm, Pitch 0.65mm, IPC Medium Density)
pins: 1 ~{INT}, 2 A1, 3 A2, 4 IO0_0, 5 IO0_1, 6 IO0_2, 7 IO0_3, 8 IO0_4, 9 IO0_5, 10 IO0_6, 11 IO0_7, 12 VSS, 13 IO1_0, 14 IO1_1, 15 IO1_2, 16 IO1_3, 17 IO1_4, 18 IO1_5, 19 IO1_6, 20 IO1_7, 21 A0, 22 SCL, 23 SDA, 24 VDD

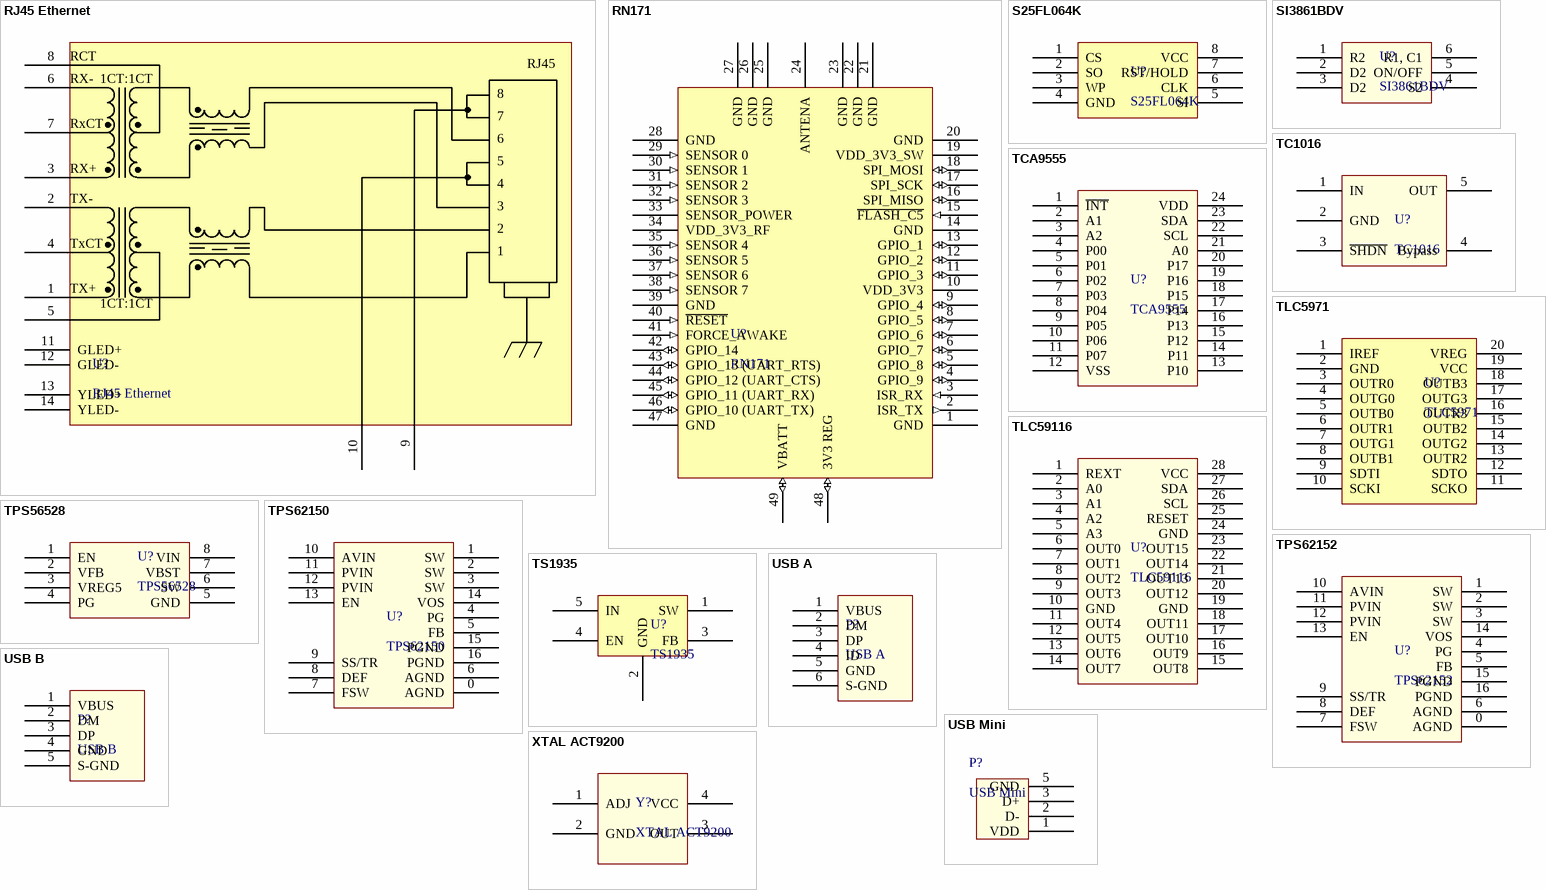
[diagram p3: symbols RJ45 Ethernet to XTAL ACT9200]

## RJ45 Ethernet
designator U?
Ethernet Connector
footprint RJ45 Ethernet connector
pins: 1, 2, 3, 4, 5, 6, 7, 8, 9, 10, 11 GLED+, 12 GLED-, 13 YLED+, 14 YLED-
text: RCT; RJ45; RX-; 1CT:1CT; RxCT; RX+; TX-; TxCT; TX+

## RN171
designator U?
WIFI Module
footprint RN-171 Wi-Fi Module
pins: 1 GND, 2 ISR_TX (out), 3 ISR_RX (in), 4 GPIO_9 (io), 5 GPIO_8 (io), 6 GPIO_7 (io), 7 GPIO_6 (io), 8 GPIO_5 (io), 9 GPIO_4 (io), 10 VDD_3V3, 11 GPIO_3 (io), 12 GPIO_2 (io), 13 GPIO_1 (io), 14 GND, 15 ~{FLASH_C5} (in), 16 SPI_MISO (io), 17 SPI_SCK (io), 18 SPI_MOSI (io), 19 VDD_3V3_SW, 20 GND, 21 GND, 22 GND, 23 GND, 24 ANTENA, 25 GND, 26 GND, 27 GND, 28 GND, 29 SENSOR 0 (in), 30 SENSOR 1 (in), 31 SENSOR 2 (in), 32 SENSOR 3 (in), 33 SENSOR_POWER, 34 VDD_3V3_RF, 35 SENSOR 4 (in), 36 SENSOR 5 (in), 37 SENSOR 6 (in), 38 SENSOR 7 (in), 39 GND, 40 ~{RESET} (in), 41 FORCE_AWAKE (in), 42 GPIO_14 (io), 43 GPIO_13 (UART_RTS) (io), 44 GPIO_12 (UART_CTS) (io), 45 GPIO_11 (UART_RX) (io), 46 GPIO_10 (UART_TX) (io), 47 GND, 48 3V3 REG (io), 49 VBATT (io)

## S25FL064K
designator U?
SPI Flash
footprint S25FL064K - Flash SPI 8SOIC
3D model 8-SOIC-PACKAGE (PCB3D Model)
pins: 1 CS, 2 SO, 3 WP, 4 GND, 5 SI, 6 CLK, 7 RST/HOLD, 8 VCC

## SI3861BDV
designator U?
4.5 - 20V 2.3A Load Switch
footprint TSOP 6
pins: 1 R2, 2 D2, 3 D2, 4 S2, 5 ON/OFF, 6 R1, C1

## TC1016
designator U?
150mA LDO
pins: 1 IN, 2 GND, 3 ~{SHDN}, 4 Bypass, 5 OUT

## TCA9555
designator U?
I2C I/O Ports
footprint TCA9555 (I2C I/O Ports PW Package)
pins: 1 ~{INT}, 2 A1, 3 A2, 4 P00, 5 P01, 6 P02, 7 P03, 8 P04, 9 P05, 10 P06, 11 P07, 12 VSS, 13 P10, 14 P11, 15 P12, 16 P13, 17 P14, 18 P15, 19 P16, 20 P17, 21 A0, 22 SCL, 23 SDA, 24 VDD

## TLC5971
designator U?
LED Driver
footprint TLC5971
signal-integrity model TCL5971 (Model Description)
pins: 1 IREF, 2 GND, 3 OUTR0, 4 OUTG0, 5 OUTB0, 6 OUTR1, 7 OUTG1, 8 OUTB1, 9 SDTI, 10 SCKI, 11 SCKO, 12 SDTO, 13 OUTR2, 14 OUTG2, 15 OUTB2, 16 OUTR3, 17 OUTG3, 18 OUTB3, 19 VCC, 20 VREG

## TLC59116
designator U?
16-Channel i2c LED driver
footprint TSSOP28
pins: 1 REXT, 2 A0, 3 A1, 4 A2, 5 A3, 6 OUT0, 7 OUT1, 8 OUT2, 9 OUT3, 10 GND, 11 OUT4, 12 OUT5, 13 OUT6, 14 OUT7, 15 OUT8, 16 OUT9, 17 OUT10, 18 OUT11, 19 GND, 20 OUT12, 21 OUT13, 22 OUT14, 23 OUT15, 24 GND, 25 RESET, 26 SCL, 27 SDA, 28 VCC

## TPS56528
designator U?
Step-Down Converter 5A 4.5V-18V
footprint TPS56528 (Footprint not found)
pins: 1 EN, 2 VFB, 3 VREG5, 4 PG, 5 GND, 6 SW, 7 VBST, 8 VIN

## TPS62150
designator U?
3-17V 1A Step-Down Converter
signal-integrity model Model Name (Model Description)
footprint TPS62152 RGT (3-17V 1A Step-Down Converter)
pins: 0 AGND, 1 SW, 2 SW, 3 SW, 4 PG, 5 FB, 6 AGND, 7 FSW, 8 DEF, 9 SS/TR, 10 AVIN, 11 PVIN, 12 PVIN, 13 EN, 14 VOS, 15 PGND, 16 PGND

## TPS62152
designator U?
3-17V 3.3V 1A Step-Down Converter
signal-integrity model Model Name (Model Description)
footprint TPS62152 RGT (3-17V 1A Step-Down Converter)
pins: 0 AGND, 1 SW, 2 SW, 3 SW, 4 PG, 5 FB, 6 AGND, 7 FSW, 8 DEF, 9 SS/TR, 10 AVIN, 11 PVIN, 12 PVIN, 13 EN, 14 VOS, 15 PGND, 16 PGND

## TS1935
designator U?
Step-Up Converter
3D model SOT-23-5 (PCB3D Model)
footprint TS1935 Boost converter - duplicate
pins: 1 SW, 2 GND, 3 FB, 4 EN, 5 IN

## USB A
designator P?
USB Connector
footprint USB B
pins: 1 VBUS, 2 DM, 3 DP, 4 ID, 5 GND, 6 S-GND

## USB B
designator P?
USB Connector
footprint USB B
pins: 1 VBUS, 2 DM, 3 DP, 4 GND, 5 S-GND

## USB Mini
designator P?
USB Connector
footprint USB/SM0.8-6H5 (Connector; USB2.0, Type B, SM; 5 Position; Right Angle)
pins: 1 VDD, 2 D-, 3 D+, 5 GND

## XTAL ACT9200
designator Y?
footprint XTAL ACT9200
pins: 1 ADJ, 2 GND, 3 OUT, 4 VCC